# EAGLE library part CONN_07X2 (library CalvEngIO-Connectors)
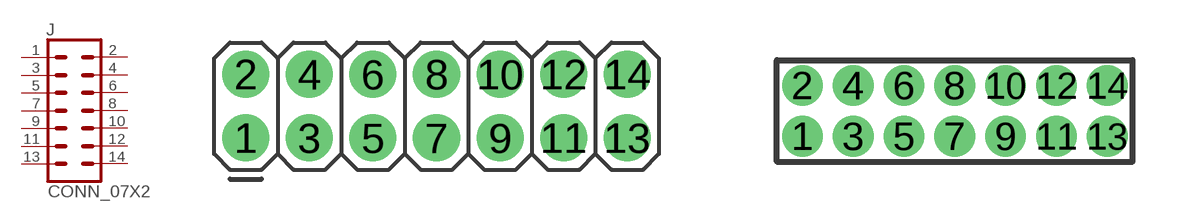
[diagram p20: symbol with the pads of 2X07; footprints 2X07, 2X07_50MIL_R_C]

Designator prefix J

## CONN_07X2  [2X07]
1  1  pas
2  2  pas
3  3  pas
4  4  pas
5  5  pas
6  6  pas
7  7  pas
8  8  pas
9  9  pas
10  10  pas
11  11  pas
12  12  pas
13  13  pas
14  14  pas

## CONN_07X2.2X07_50MIL_R_C  [2X07_50MIL_R_C]
Pads as for 2X07

## CONN_07X2.50MIL_R  [2X07_50MIL_R]
Pads as for 2X07

## Footprint 2X07 (pad centres in mm)
drill 1.016 pad 1.88: 1 0,0; 2 0,2.54; 3 2.54,0; 4 2.54,2.54; 5 5.08,0; 6 5.08,2.54; 7 7.62,0; 8 7.62,2.54; 9 10.16,0; 10 10.16,2.54; 11 12.7,0; 12 12.7,2.54; 13 15.24,0; 14 15.24,2.54

## Footprint 2X07_50MIL_R_C (pad centres in mm)
drill 0.508 pad 0.94: 1 0,0; 2 0,1.27; 3 1.27,0; 4 1.27,1.27; 5 2.54,0; 6 2.54,1.27; 7 3.81,0; 8 3.81,1.27; 9 5.08,0; 10 5.08,1.27; 11 6.35,0; 12 6.35,1.27; 13 7.62,0; 14 7.62,1.27

## Footprint 2X07_50MIL_R (pad centres in mm)
drill 0.508 pad 0.94: 1 0,0; 2 0,1.27; 3 2.54,0; 4 2.54,1.27; 5 5.08,0; 6 5.08,1.27; 7 7.62,0; 8 7.62,1.27; 9 10.16,0; 10 10.16,1.27; 11 12.7,0; 12 12.7,1.27; 13 15.24,0; 14 15.24,1.27